# Altium schematic symbol library PAM2804.SchLib: 1 symbol
Pins are listed as number, name and electrical type; pins without a type are passive.

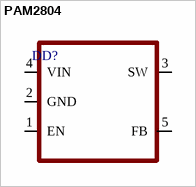
[diagram p0: symbol PAM2804]

## PAM2804
designator DD?
pins: 1 EN, 2 GND, 3 SW, 4 VIN, 5 FB